# Altium footprint library DE-290817.PcbLib: 103 footprints (part 3 of 7)
Each footprint in its own frame and in the unit in brackets; x right, y up, seen from the top. Pads: shape width x height; smd on the part's side, far side on the other; paste and mask are expansions set on the pad; w line width, h text height; cw(c..) or ccw(c..) is an arc to the next point about the centre after c.
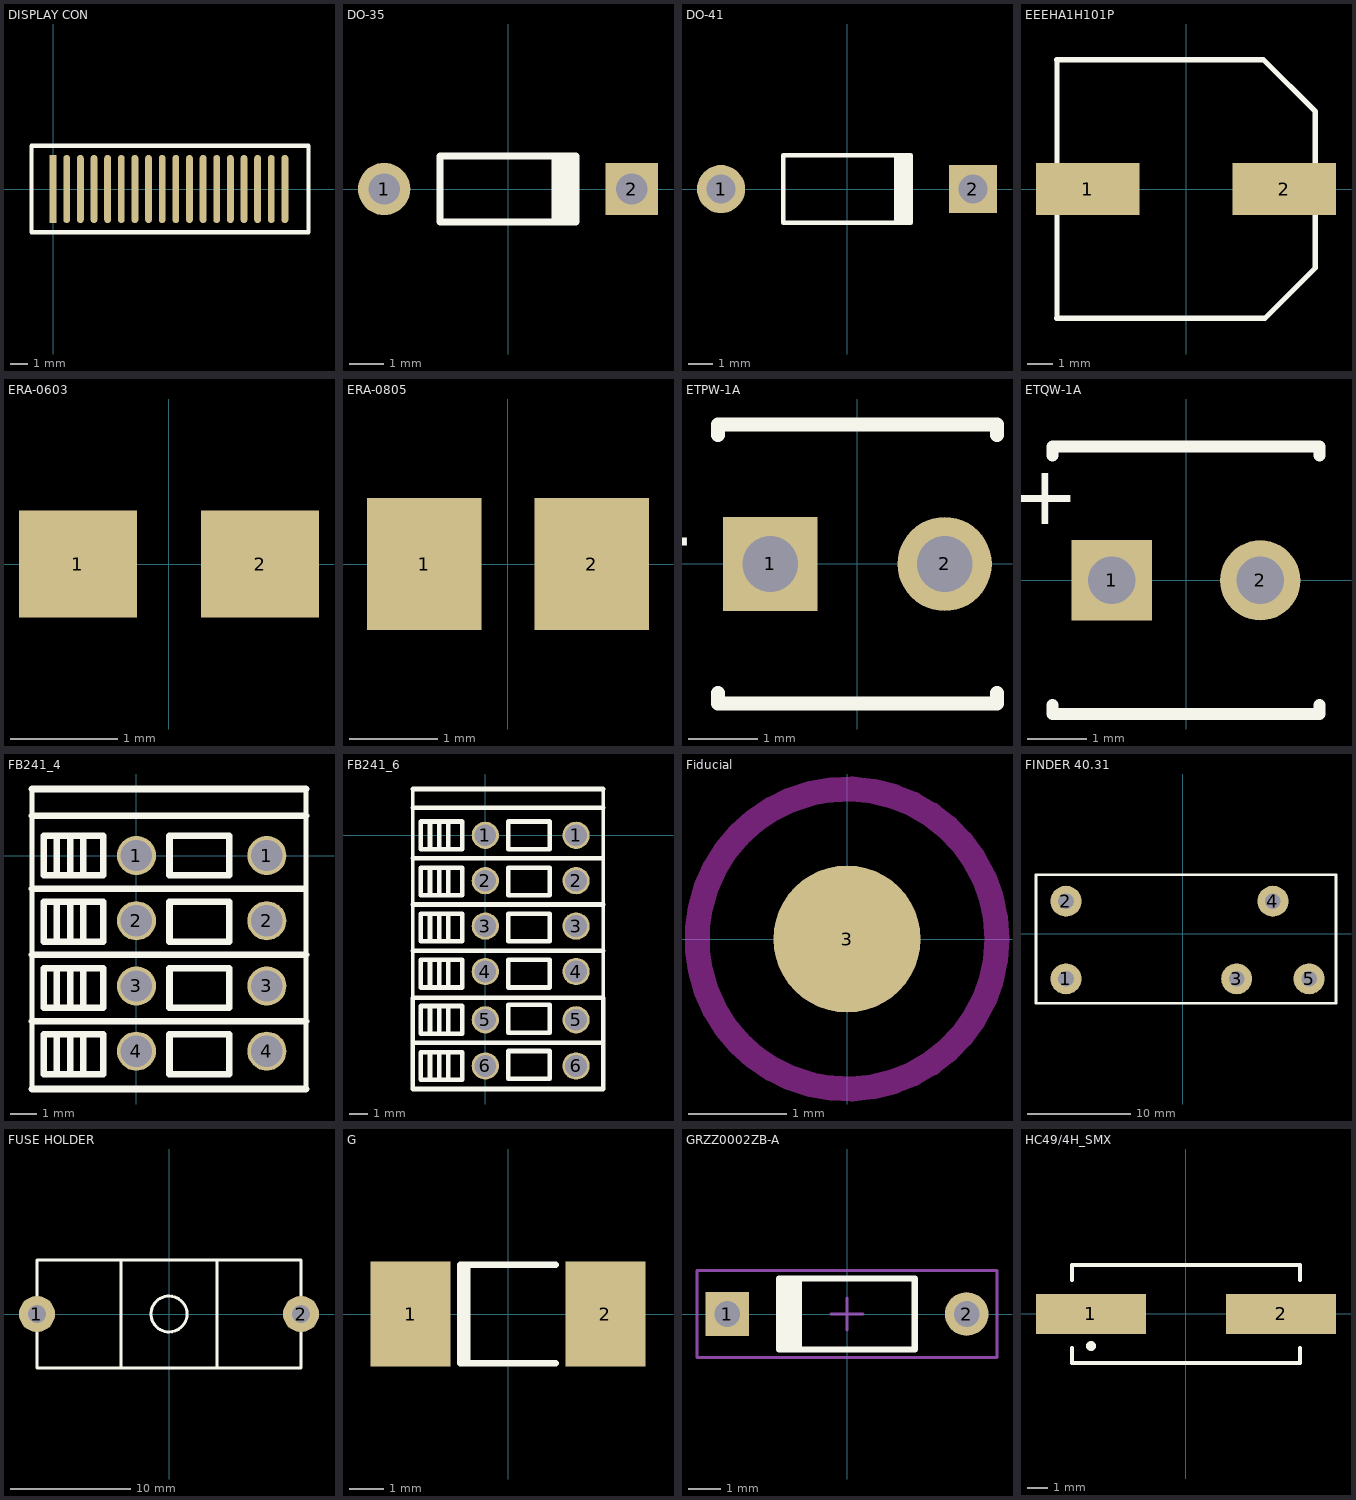
[diagram p2: the footprints below, top view; thin cyan lines are the x and y axes]

## DISPLAY CON [mm] "Display ILI9431 240x320 solderable connector"
pads (18):
  rect 0.4x4 smd: 1(0,0)
  oval 0.4x4 smd: 2(0.8,0) 3(1.6,0) 4(2.4,0) 5(3.2,0) 6(4,0) 7(4.8,0) 8(5.6,0) 9(6.4,0) 10(7.2,0) 11(8,0) 12(8.8,0) 13(9.6,0) 14(10.4,0) 15(11.2,0) 16(12,0) 17(12.8,0) 18(13.6,0)
Top Overlay:
  lines w0.254: -1.27,-2.54 -1.27,2.54 14.986,2.54 14.986,-2.54 -1.27,-2.54

## DO-35 [mm] "Diode, Axial; Body 3.8 x 1.9 mm (LxDia. max), Lead Dia. 0.53 mm (max)"
height 1.9
pads (2):
  round 1.5 hole 0.9: 1(-3.55,0)
  rect 1.5x1.5 hole 0.9: 2(3.55,0)
Top Overlay:
  rectangle: 1.25,-0.95 2.05,0.95
  lines w0.2: 1.95,-0.95 -1.95,-0.95 -1.95,0.95 1.95,0.95

## DO-41 [mm] "Diode, Axial; Body 5.2 x 2.7 mm (LxDia. max), Lead Dia. 0.86 mm (max)"
height 2.8
pads (2):
  round 2 hole 1.2: 1(-5.23,0)
  rect 2x2 hole 1.2: 2(5.23,0)
Top Overlay:
  rectangle: 1.95,-1.398 2.75,1.402
  lines w0.2: 2.65,-1.4 -2.65,-1.4 -2.65,1.4 2.65,1.4

## EEEHA1H101P [mm]
pads (2):
  rect 4x2 smd: 1(-3.8,0) 2(3.8,0)
Top Overlay:
  lines w0.2: -5,-5 3.052,-5 5.004,-3.048 ; -5,5 3.001,5 5.004,2.997 ; -4.989,-5 -4.989,0 -4.989,5 ; 5,-3 5,3
3D body: height 10, standoff 0, extent -5,-4.998 5,4.999

## ERA-0603 [mm] "Chip Resistor; Body 1.6 x 0.8 mm (LxW typ)"
height 0.55
pads (2):
  rect 1.1x1 smd: 1(-0.85,0) 2(0.85,0)

## ERA-0805 [mm] "Chip Resistor; Body 2 x 1.3 mm (LxW typ)"
height 0.6
pads (2):
  rect 1.3x1.5 smd: 1(-0.95,0) 2(0.95,0)

## ETPW-1A [mm] "Capacitor, Tantalum Bead; Body 4 x 7.1 mm (Dia.xH max); Pin Spacing 2.5 mm (typ)"
height 7.1
pads (2):
  rect 1.35x1.35 hole 0.8: 1(-1.25,0)
  round 1.35 hole 0.8: 2(1.25,0)
Top Overlay:
  lines w0.2: -2,-1.85 -2,-2 2,-2 2,-1.85 ; -2,1.85 -2,2 2,2 2,1.85
  text "+" at -2.3,0.75 h1

## ETQW-1A [mm] "Capacitor, Tantalum Bead; Body 4.5 x 7.5 mm (Dia.xH max); Pin Spacing 2.5 mm (typ)"
height 7.5
pads (2):
  rect 1.35x1.35 hole 0.8: 1(-1.25,0)
  round 1.35 hole 0.8: 2(1.25,0)
Top Overlay:
  lines w0.2: -2.25,-2.1 -2.25,-2.25 2.25,-2.25 2.25,-2.1 ; -2.25,2.1 -2.25,2.25 2.25,2.25 2.25,2.1
  text "+" at -1.8,1.8 h1

## FB241_4 [mm] "PCB MOUNT TERMINAL BLOCK 2.5MM PITCH"
height 13.8
pads (8):
  round 1.5 hole 1.2: 1(0,0) 1(5,0) 2(0,-2.5) 2(5,-2.5) 3(0,-5) 3(5,-5) 4(0,-7.5) 4(5,-7.5)
Top Overlay:
  lines w0.2: -4,-8.95 -4,2.55 ; 6.5,-8.95 6.5,2.55
  lines w0.254: -4,-8.95 6.5,-8.95 ; -4,-6.35 6.5,-6.35 ; -4,-3.81 6.5,-3.81 ; -4,-1.27 6.35,-1.27 ; -4,1.524 6.5,1.524 ; -4,2.55 6.5,2.55 ; -3.048,-8.382 -3.048,-6.858 ; -3.048,-5.842 -3.048,-4.318 ; -3.048,-3.302 -3.048,-1.778 ; -3.048,-0.762 -3.048,0.762 ; -2.54,-8.382 -2.54,-6.858 ; -2.54,-5.842 -2.54,-4.318 ; -2.54,-3.302 -2.54,-1.778 ; -2.54,-0.762 -2.54,0.762 ; -2.032,-8.382 -2.032,-6.858 ; -2.032,-5.842 -2.032,-4.318 ; -2.032,-3.302 -2.032,-1.778 ; -2.032,-0.762 -2.032,0.762 ; -3.556,-8.382 -1.27,-8.382 -1.27,-6.858 -3.556,-6.858 -3.556,-8.382 ; -3.556,-5.842 -1.27,-5.842 -1.27,-4.318 -3.556,-4.318 -3.556,-5.842 ; -3.556,-3.302 -1.27,-3.302 -1.27,-1.778 -3.556,-1.778 -3.556,-3.302 ; -3.556,-0.762 -3.556,0.762 -1.27,0.762 -1.27,-0.762 -3.556,-0.762 ; 1.27,-8.382 3.556,-8.382 3.556,-6.858 1.27,-6.858 1.27,-8.382 ; 1.27,-5.842 3.556,-5.842 3.556,-4.318 1.27,-4.318 1.27,-5.842 ; 1.27,-3.302 3.556,-3.302 3.556,-1.778 1.27,-1.778 1.27,-3.302 ; 1.27,-0.762 3.556,-0.762 3.556,0.762 1.27,0.762 1.27,-0.762
3D body: height 13.8, standoff 0, extent -4.064,-9.144 6.604,2.54

## FB241_6 [mm] "PCB MOUNT TERMINAL BLOCK 2.5MM PITCH"
height 13.8
pads (12):
  round 1.5 hole 1.2: 1(0,0) 1(5,0) 2(0,-2.5) 2(5,-2.5) 3(0,-5) 3(5,-5) 4(0,-7.5) 4(5,-7.5) 5(0,-10.16) 5(5,-10.16) 6(0,-12.7) 6(5,-12.7)
Top Overlay:
  lines w0.2: -4,-8.95 -4,2.55 ; 6.5,-8.95 6.5,2.55
  lines w0.254: -4,-13.97 -4,-8.95 6.5,-8.95 6.5,-13.866 ; -4,-6.35 6.5,-6.35 ; -4,-3.81 6.5,-3.81 ; -4,-1.27 6.35,-1.27 ; -4,1.524 6.5,1.524 ; -4,2.55 6.5,2.55 ; -3.896,-13.97 6.5,-13.97 ; -3.896,-11.43 6.5,-11.43 ; -3.048,-13.462 -3.048,-11.938 ; -3.048,-10.922 -3.048,-9.398 ; -3.048,-8.382 -3.048,-6.858 ; -3.048,-5.842 -3.048,-4.318 ; -3.048,-3.302 -3.048,-1.778 ; -3.048,-0.762 -3.048,0.762 ; -2.54,-13.462 -2.54,-11.938 ; -2.54,-10.922 -2.54,-9.398 ; -2.54,-8.382 -2.54,-6.858 ; -2.54,-5.842 -2.54,-4.318 ; -2.54,-3.302 -2.54,-1.778 ; -2.54,-0.762 -2.54,0.762 ; -2.032,-13.462 -2.032,-11.938 ; -2.032,-10.922 -2.032,-9.398 ; -2.032,-8.382 -2.032,-6.858 ; -2.032,-5.842 -2.032,-4.318 ; -2.032,-3.302 -2.032,-1.778 ; -2.032,-0.762 -2.032,0.762 ; -3.556,-13.462 -1.27,-13.462 -1.27,-11.938 -3.556,-11.938 -3.556,-13.462 ; -3.556,-10.922 -1.27,-10.922 -1.27,-9.398 -3.556,-9.398 -3.556,-10.922 ; -3.556,-8.382 -3.556,-6.858 -1.27,-6.858 -1.27,-8.382 -3.556,-8.382 ; -3.556,-5.842 -3.556,-4.318 -1.27,-4.318 -1.27,-5.842 -3.556,-5.842 ; -3.556,-3.302 -3.556,-1.778 -1.27,-1.778 -1.27,-3.302 -3.556,-3.302 ; -3.556,-0.762 -1.27,-0.762 -1.27,0.762 -3.556,0.762 -3.556,-0.762 ; 1.27,-13.402 3.556,-13.402 3.556,-11.878 1.27,-11.878 1.27,-13.402 ; 1.27,-10.862 3.556,-10.862 3.556,-9.338 1.27,-9.338 1.27,-10.862 ; 1.27,-8.382 1.27,-6.858 3.556,-6.858 3.556,-8.382 1.27,-8.382 ; 1.27,-5.842 1.27,-4.318 3.556,-4.318 3.556,-5.842 1.27,-5.842 ; 1.27,-3.302 1.27,-1.778 3.556,-1.778 3.556,-3.302 1.27,-3.302 ; 1.27,-0.762 1.27,0.762 3.556,0.762 3.556,-0.762 1.27,-0.762
3D body: height 13.8, standoff 0, extent -4.064,-13.97 6.604,2.54

## Fiducial [mm] "Pick and place machine mark"
height 10
pads (1):
  round 1.5 smd paste+0 mask+0.8: 3(0,0)
Keep-Out Layer:
  circle w0.254: c0,0 r1.529

## FINDER 40.31 [mm] "Finder raly tip 40.31"
height 20
pads (5):
  round 3 hole 1.5: 1(-11.3,-4.35) 2(-11.3,3.15) 3(5.2,-4.35) 4(8.7,3.15) 5(12.2,-4.35)
Top Overlay:
  lines w0.254: 14.788,5.7 -14.2,5.7 -14.2,-6.7 14.8,-6.7 14.8,5.7

## FUSE HOLDER [mm] "Fuse holder"
height 13
pads (2):
  round 3 hole 1.5: 1(-11,0) 2(11,0)
Top Overlay:
  circle w0.254: c0,0 r1.5
  lines w0.254: -4,-4.5 -4,4.5 ; 4,-4.5 4,4.5 ; -11,-4.5 11,-4.5 11,4.5 -11,4.5 -11,-4.5
3D body: height 13, standoff 0, extent -11,-4 11,4

## G [mm] "Chip Capacitor; Body 6.73 x 2.79 mm (LxW typ)"
height 3.18
pads (2):
  rect 2.35x3.1 smd: 1(-2.875,0) 2(2.875,0)
Top Overlay:
  lines w0.2: -1.21,-1.45 -1.21,1.45 ; 1.4,-1.45 -1.4,-1.45 -1.4,1.45 1.4,1.45

## GRZZ0002ZB-A [mm] "Diode, Axial; Body 4.2 x 2.2 mm (LxDia. max), Lead Dia. 0.5 mm (nom)"
height 2.2
pads (2):
  rect 1.35x1.35 hole 0.8: 1(-3.71,0)
  round 1.35 hole 0.8: 2(3.71,0)
Top Overlay:
  region: -1.4,1.1 -2.2,1.1 -2.2,-1.1 -1.4,-1.1
  lines w0.2: -2.1,-1.1 2.1,-1.1 2.1,1.1 -2.1,1.1
Mechanical 13:
  region: -1.401,1.05 -2.151,1.05 -2.151,-1.05 -1.401,-1.05
  lines w0.1: -2.1,-1.1 -2.1,1.1 2.1,1.1 2.1,-1.1 -2.1,-1.1
Mechanical 15:
  lines w0.1: -0.5,0 0.5,0 ; 0,-0.5 0,0.5 ; -4.65,-1.35 -4.65,1.35 4.65,1.35 4.65,-1.35 -4.65,-1.35
3D body: height 2.2, standoff 0, extent -2.099,-1.099 2.101,1.096

## HC49/4H_SMX [mm] "Surface Mount Quartz Crystal; Body 13.4 (inc. leads) x 4.9 mm (LxW max)"
height 4.3
pads (2):
  rect 5.5x2 smd: 1(-4.75,0) 2(4.75,0)
Top Overlay:
  circle w0.25: c-4.75,-1.6 r0.125
  lines w0.2: -5.7,-1.7 -5.7,-2.45 5.7,-2.45 5.7,-1.7 ; -5.7,1.7 -5.7,2.45 5.7,2.45 5.7,1.7